# Altium footprint library SO4.PcbLib: 1 footprints
Each footprint in its own frame and in the unit in brackets; x right, y up, seen from the top. Pads: shape width x height; smd on the part's side, far side on the other; paste and mask are expansions set on the pad; w line width, h text height; cw(c..) or ccw(c..) is an arc to the next point about the centre after c.
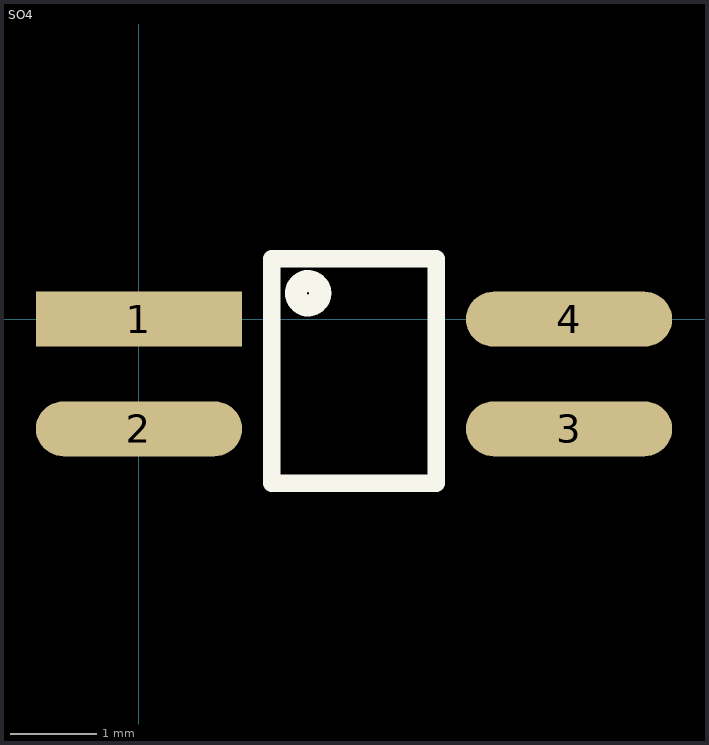
[diagram p0: the footprint, top view; thin cyan lines are the x and y axes]

## SO4 [mil]
pads (4):
  rect 94x25 smd: 1(0,0)
  oval 94x25 smd: 2(0,-50) 3(196,-50) 4(196,0)
Top Overlay:
  circle w10: c77.11,11.81 r5.57
  lines w8: 60.5,-74.8 135.5,-74.8 135.5,27.56 60.5,27.56 60.5,-74.8